# EAGLE library part RFM69HW (library BaseApp)
Digikey No :- __RFM69HW-433S2-ND__
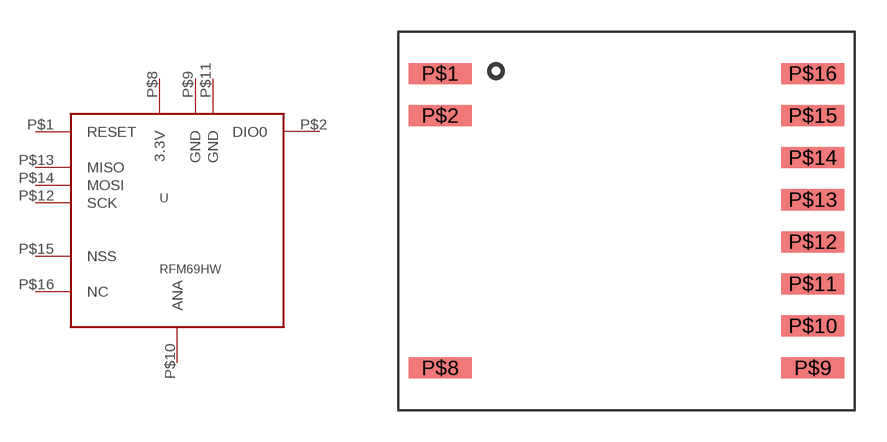
[diagram p123: symbol with the pads of RFM69HW; footprint RFM69HW]

Designator prefix -

## RFM69HW  [RFM69HW]
P$1  RESET
P$2  DIO0
P$8  3.3V
P$9  GND
P$10  ANA
P$11  GND
P$12  SCK
P$13  MISO
P$14  MOSI
P$15  NSS
P$16  NC

## Footprint RFM69HW (pad centres in mm)
smd 3 x 1: P$1 -9,7.5; P$2 -9,5.5; P$8 -9,-6.5; P$9 8.7,-6.5; P$10 8.7,-4.5; P$11 8.7,-2.5; P$12 8.7,-0.5; P$13 8.7,1.5; P$14 8.7,3.5; P$15 8.7,5.5; P$16 8.7,7.5